# Altium integrated library Infineon RF & Wireless Control.IntLib: 329 symbols (part 9 of 11)
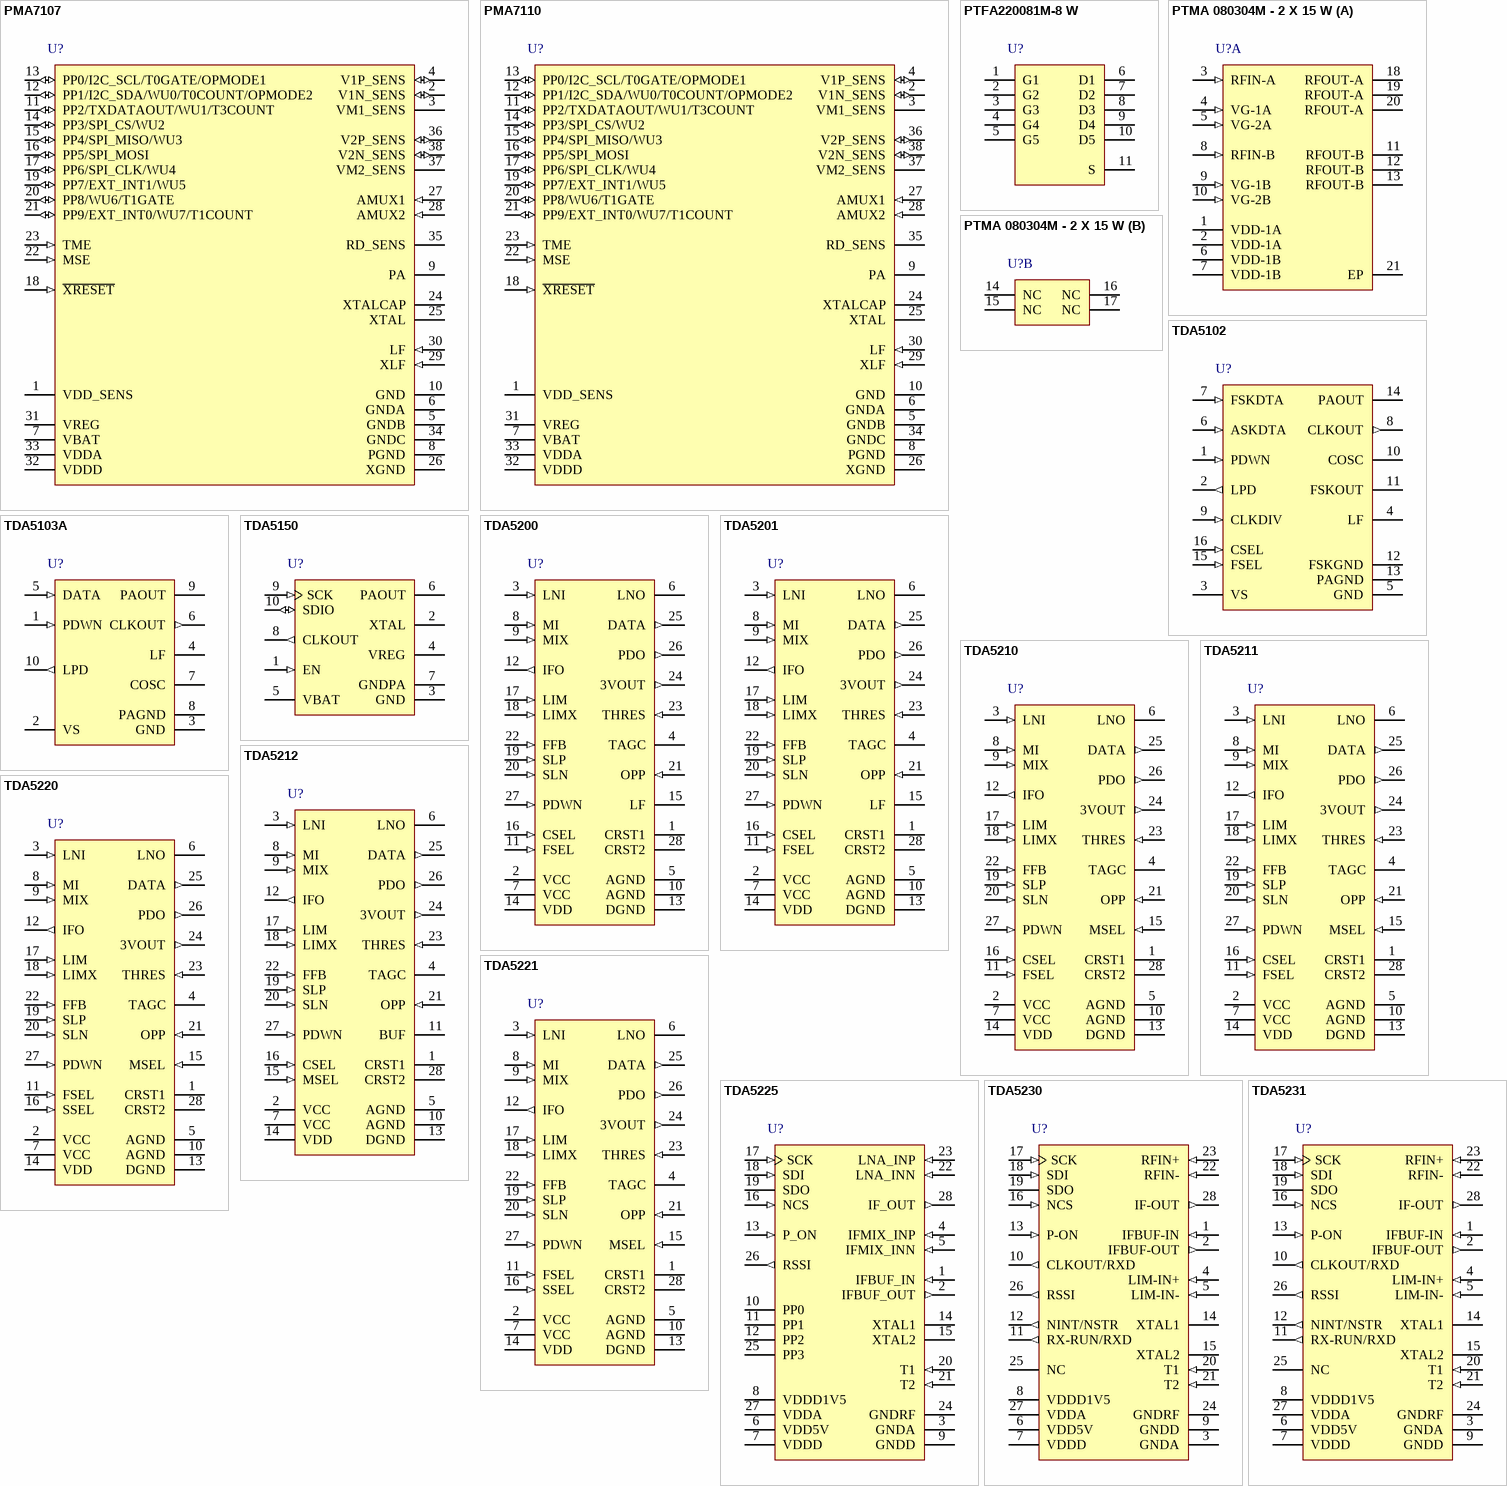
[diagram p17: symbols PMA7107 to TDA5231]

## PTFA220081M-8 W
designator U?
High Power RF LDMOS Field Effect Transistor 8 W, 700 to 2200 MHz, PG-SON-10, Reel, Green; Manufacturer: Infineon; PartNumber: PTFA220081M-8 W; Flange Type: Surface Mount; Green: TRUE; Matching: None; P1dB (typ): 8 W; Supply Voltage: 28 V; Test Signal: Two Tone; DatasheetVersion: Rev. 05; PackageReference: PG-SON-10; PackageDescription: 11-Pin Molded Plastic Package, 4 x 4 mm Body, 0.65 mm Pitch; Frequency Band Range: 700 to 2200 MHz; Packing: Reel; Mounting Technology: Surface Mount; Code_JEDEC: J-STD-020; Code_IPC: J-STD-020; ComponentLink1Description: Manufacturer URL; ComponentLink1URL: http://www.infineon.com/; ComponentLink2Description: Datasheet; ComponentLink2URL: http://www.infineon.com/dgdl/ptfa220081m-v4_ds_05.pdf?folderId=db3a304312fcb1bc01131b00814e17cf&fileId=db3a3043271faefd0127b603d2543329; ComponentLink3Description: Package Specification; ComponentLink3URL: http://www.infineon.com/dgdl/ptfa220081m-v4_ds_05.pdf?folderId=db3a304312fcb1bc01131b00814e17cf&fileId=db3a3043271faefd0127b603d2543329
footprint INF-PG-SON-10_N (SON, 10-Leads, Body 4x4 mm, Pitch 0.65 mm, Thermal Pad 3.4x2.37 mm, IPC Medium Density)
footprint INF-PG-SON-10_L (SON, 10-Leads, Body 4x4mm, Pitch 0.65mm, Thermal Pad 3.4x2.37mm, IPC High Density)
footprint INF-PG-SON-10_M (SON, 10-Leads, Body 4x4mm, Pitch 0.65mm, Thermal Pad 3.4x2.37mm, IPC Low Density)
pins: 1 G1, 2 G2, 3 G3, 4 G4, 5 G5, 6 D1, 7 D2, 8 D3, 9 D4, 10 D5, 11 S

## PTMA 080304M - 2 X 15 W
designator U?
Dual Wideband RF LDMOS Power Amplifier, 700 - 1,000 MHz, PG-DSO-20-63, Green; Manufacturer: Infineon; PartNumber: PTMA 080304M - 2 X 15 W; Green: yes; Group: PTMA 080304M - Amplifier IC; Matching: I/O; P1dB (typ): 30 W; DatasheetVersion: Rev. 04; PackageReference: PG-DSO-20-63; PackageDescription: 20-Pin Plastic (Green) Dual Small Outline Package, 11 x 15.9 mm Body, 1.27 mm Pitch; Frequency Band: 700 - 1,000 MHz; Mounting Technology: Surface Mount; ComponentLink1Description: Manufacturer URL; ComponentLink1URL: http://www.infineon.com/; ComponentLink2Description: Datasheet; ComponentLink2URL: http://www.infineon.com/dgdl/ptma080304m-v1_ds_03.pdf?folderId=db3a304312fcb1bc01131b00814e17cf&fileId=db3a30432a14dd54012a33c5465102ca&location=en.Products.Wireless_Communication_Products.RF_Power.Cellular__700_MHz_to_1000_MHz_.DATASHEET.ptma080304m-v1_ds_03.pdf; ComponentLink3Description: Package Specification; ComponentLink3URL: http://www.infineon.com/dgdl/Recommendations+for+Board+Assembly_DSO_SSOP.pdf?folderId=db3a3043163797a6011681c047ff1632&fileId=db3a30431936bc4b0119b9be83303ea0
footprint INF-PG-DSO-20-63_N (SOP, 20-Leads, Body 15.9x11 mm, Pitch 1.27 mm, Thermal Pad 6x15.9 mm, IPC Medium Density)
footprint INF-PG-DSO-20-63_L (SOP, 20-Leads, Body 15.9x11 mm, Pitch 1.27 mm, Thermal Pad 6x15.9 mm, IPC High Density)
footprint INF-PG-DSO-20-63_M (SOP, 20-Leads, Body 15.9x11 mm, Pitch 1.27 mm, Thermal Pad 6x15.9 mm, IPC Low Density)
part A pins: 1 VDD-1A (power), 2 VDD-1A (power), 3 RFIN-A (in), 4 VG-1A (in), 5 VG-2A (in), 6 VDD-1B (power), 7 VDD-1B (power), 8 RFIN-B (in), 9 VG-1B (in), 10 VG-2B (in), 11 RFOUT-B, 12 RFOUT-B, 13 RFOUT-B, 18 RFOUT-A, 19 RFOUT-A, 20 RFOUT-A, 21 EP
part B pins: 14 NC, 15 NC, 16 NC, 17 NC

## TDA5102
designator U?
915 MHz ASK / FSK Transmitter, -25 to 85 degC, PG-TSSOP-16, Green; Manufacturer: Infineon; PartNumber: TDA5102; Channel Requirements per Band: Single Channel; Frequency Band: 915 MHz; Green: yes; Transmit Power (at 3V): 2 dBm; DatasheetVersion: Rev. 1.1; PackageReference: PG-TSSOP-16; PackageDescription: 16-Pin Plastic (Green) Thin Shrink Small Outline Package, 5 x 4.4 mm Body, 0.65 mm Pitch; Supplier 1: Mouser; Supplier Part Number 1: 726-TDA5102; Supplier 2: Digi-Key; Supplier Part Number 2: TDA5102INTRINTR-ND; Supplier 3: Digi-Key; Supplier Part Number 3: TDA5102INTRINCT-ND; Supplier 4: Digi-Key; Supplier Part Number 4: TDA5102INTRINDKR-ND; Group: Transmitter; Halogen-free: yes; Modulation Type: ASK / FSK; Mounting Technology: Surface Mount; ComponentLink1Description: Manufacturer URL; ComponentLink1URL: http://www.infineon.com/; ComponentLink2Description: Datasheet; ComponentLink2URL: http://www.infineon.com/dgdl/TDA5102_DS_V1.1.pdf?folderId=db3a3043191a246301192dd42ef02ae5&fileId=db3a3043191a246301192de2f7b12b0c&location=en.Products.Sensors___Wireless_Control.Wireless_Control.Transmitter.DATASHEET.TDA5102_DS_V1.1.pdf; ComponentLink3Description: Package Specification; ComponentLink3URL: http://www.infineon.com/cms/packages/SMD_-_Surface_Mounted_Devices/P-PG-TSSOP/P-PG-TSSOP-16-1.html?__locale=en
footprint INF-PG-TSSOP-16_N (SOP, 16-Leads, Body 5x4.4 mm, Pitch 0.65 mm, IPC Medium Density, IPC Medium Density)
footprint INF-PG-TSSOP-16_L (SOP, 16-Leads, Body 5x4.4 mm, Pitch 0.65 mm, IPC High Density, IPC High Density)
footprint INF-PG-TSSOP-16_M (SOP, 16-Leads, Body 5x4.4 mm, Pitch 0.65 mm, IPC High Density, IPC Low Density)
pins: 1 PDWN (in) "Disable pin for the complete transmitter circuit. A logic low (PDWN < 0.7 V)  turns off all transmitter functions. A logic high (PDWN > 1.5 V) gives access to all transmitter functions. PDWN input will be pulled up by 40 µA (See Datasheet)", 2 LPD (out) "This pin provides an output indicating the low-voltage state of the supply voltage VS. VS < 2.15 V will set LPD to the low-state. An internal pull-up current of 40 µA gives the  output a high-state at supply voltages above 2.(See Datasheet)", 3 VS (power) "This pin is the positive supply of the transmitter electronics. An RF bypass capacitor should be connected directly to this pin and returned to GND (pin 5) as short as possible.", 4 LF "Output of the charge pump and input of the VCO control voltage. The loop bandwidth of the PLL is 150 kHz when only the internal loop filter is used. The loop bandwidth may be reduced by applying an external RC network (See Datasheet)", 5 GND (power) "General ground connection.", 6 ASKDTA (in) "Digital amplitude modulation can be imparted to the Power Amplifier through this pin. A logic high (ASKDTA > 1.5 V or open) enables the Power Amplifier. A logic low (ASKDTA < 0.5 V) disables the Power Amplifier.", 7 FSKDTA (in) "Digital frequency modulation can be imparted to the Xtal Oscillator by this pin. The VCO-frequency varies in accordance to the frequency of the reference oscillator. A logic high (FSKDTA > 1.5V or open) sets the FSK switch (See Datasheet)", 8 CLKOUT (out) "State. A logic low (FSKDTA < 0.5 V) closes the FSK switch from FSKOUT (pin 11) to FSKGND (pin 12). A capacitor can be switched to the reference crystal network this way. The Xtal Oscillator frequency will be shifted giving (See Datasheet)", 9 CLKDIV (in) "This pin is used to select the desired clock division rate for the CLKOUT signal. A logic low (CLKDIV < 0.2 V) applied to this pin selects the 3.57 MHz output signal at CLKOUT (pin 8). A logic high (CLKDIV open) applied to (See Datasheet)", 10 COSC "This pin is connected to the reference oscillator circuit. The reference oscillator is working as a negative impedance converter. It presents a negative resistance in series to an inductance at the COSC pin.", 11 FSKOUT (hiz) "This pin is connected to a switch to FSKGND (pin 12). The switch is closed when the signal at FSKDTA (pin 7) is in a logic low state. The switch is open when the signal at FSKDTA (pin 7) is in a logic high state.FSKOUT can (See Datasheet)", 12 FSKGND (power) "Ground connection for FSK modulation output  FSKOUT.", 13 PAGND (power) "Ground connection of the power amplifier.The RF ground return path of the power amplifier output PAOUT (pin 14) has to be concentrated to this pin.", 14 PAOUT (oc) "RF output pin of the transmitter. A DC path to the positive supply VS has to be supplied by the antenna matching network.", 15 FSEL (in) "This pin has to be left open to select the 915 MHz transmitter frequency range.A logic low (FSEL < 0.5 V) applied to this pin sets the transmitter to the 457 MHz frequency range.A logic high (FSEL open) applied to this pin (See Datasheet)", 16 CSEL (in) "This pin is used to select the desired reference frequency.A logic low (CSEL < 0.2 V) applied to this pin sets the internal frequency divider to accept a reference frequency of 7.15 MHz. A logic high (CSEL open) applied to (See Datasheet)"

## TDA5103A
designator U?
345 MHz ASK Transmitter, -25 to 85 degC, PG-TSSOP-10, Green; Manufacturer: Infineon; PartNumber: TDA5103A; Channel Requirements per Band: Single Channel; Frequency Band: 345 MHz; Green: yes; Modulation Type: ASK only; Transmit Power (at 3V): 5 dBm; DatasheetVersion: Rev. 1.0; PackageReference: PG-TSSOP-10; PackageDescription: 10-Pin Plastic (Green) Thin Shrink Small Outline Package, 3 x 3 mm Body, 0.5 mm Pitch; Supplier 1: Mouser; Supplier Part Number 1: 726-TDA5103A; Supplier 2: Digi-Key; Supplier Part Number 2: TDA5103AINTR-ND; Supplier 3: Digi-Key; Supplier Part Number 3: TDA5103AINCT-ND; Group: Transmitter; Mounting Technology: Surface Mount; ComponentLink1Description: Manufacturer URL; ComponentLink1URL: http://www.infineon.com/; ComponentLink2Description: Datasheet; ComponentLink2URL: http://www.infineon.com/dgdl/TDA5103A_DS_V1.pdf?folderId=db3a30431689f4420116a096e1db033e&fileId=db3a3043192ec3c201193314a3d02c1a&location=en.Products.Sensors___Wireless_Control.Wireless_Control.Transmitter.DATASHEET.TDA5103A_DS_V1.pdf; ComponentLink3Description: Package Specification; ComponentLink3URL: http://www.infineon.com/cms/packages/SMD_-_Surface_Mounted_Devices/P-PG-TSSOP/P-PG-TSSOP-10-1x_-3x_-5.html?__locale=en
footprint INF-PG-TSSOP-10_N (SOP, 10-Leads, Body 3x3 mm, Pitch 0.5 mm, IPC Medium Density)
footprint INF-PG-TSSOP-10_L (SOP, 10-Leads, Body 3x3 mm, Pitch 0.5 mm, IPC High Density)
footprint INF-PG-TSSOP-10_M (SOP, 10-Leads, Body 3x3 mm, Pitch 0.5 mm, IPC Low Density)
pins: 1 PDWN (in) "Disable pin for the complete transmitter circuit. A logic low (PDWN < 0.7 V) turns off all transmitter functions. A logic high (PDWN > 1.5 V) gives access to all transmitter functions. PDWN input will be pulled up by 40 uA (See Datasheet)", 2 VS (power) "This pin is the positive supply of the transmitter electronics. An RF bypass capacitor should be connected directly to this pin and returned to GND (pin 3) as short as possible.", 3 GND (power) "General ground connection.", 4 LF "Output of the charge pump and input of the VCO control voltage. The loop bandwidth of the PLL is 150 kHz when only the internal loop filter is used. The loop bandwidth may be reduced by applying an external RC network (See Datasheet)", 5 DATA (in) "Digital amplitude modulation can be imparted to the Power Amplifier through this pin. A logic high (DATA > 1.5 V or open) enables the Power Amplifier. A logic low (DATA < 0.5 V) disables the Power Amplifier.", 6 CLKOUT (out) "Clock output to supply an external device. An external pull-up resistor has to be added in accordance to the driving requirements of the external device. The clock output frequency is 2.7 MHz when a crystal of 10.78 MHz is (See Datasheet)", 7 COSC "This pin is connected to the reference oscillator circuit. The reference oscillator is working as a negative impedance converter. It presents a negative resistance in series to an inductance at the COSC pin. The resonance (See Datasheet)", 8 PAGND (power) "Ground connection of the power amplifier. The RF ground return path of the power amplifier output PAOUT (pin 9) has to be concentrated to this pin.", 9 PAOUT (oc) "RF output pin of the transmitter. A DC path to the positive supply VS has to be supplied by the antenna matching network.", 10 LPD (out) "This pin provides an output indicating the low-voltage state of the supply voltage VS. VS < 2.15 V will set LPD to the low-state. An internal pull-up current of 40 uA gives the output a high-state at supply voltages above 2.(See Datasheet)"

## TDA5150
designator U?
Multichannel / Multiband Transmitter, -40 to 85 degC, PG-TSSOP-10, Green; Manufacturer: Infineon; PartNumber: TDA5150; Frequency Band: 315 MHz, 434 MHz, 868 MHz, 915 MHz; Green: yes; Group: SmartLEWIS TX to Multi-Channel Transmitter; Modulation Type: ASK / FSK; Transmit Power (at 3V): 5 dBm, 8 dBm, 10 dBm; DatasheetVersion: Rev. 1.0; PackageReference: PG-TSSOP-10; PackageDescription: 10-Pin Plastic (Green) Thin Shrink Small Outline Package, 3 x 3 mm Body, 0.5 mm Pitch; Supplier 1: Mouser; Supplier Part Number 1: 726-TDA5150; Supplier 2: Digi-Key; Supplier Part Number 2: TDA5150INTR-ND; Supplier 3: Digi-Key; Supplier Part Number 3: TDA5150INCT-ND; Supplier 4: Digi-Key; Supplier Part Number 4: TDA5150INDKR-ND; Channel Requirements per Band: Multi Channel; Mounting Technology: Surface Mount; ComponentLink1Description: Manufacturer URL; ComponentLink1URL: http://www.infineon.com/; ComponentLink2Description: Datasheet; ComponentLink2URL: http://www.infineon.com/dgdl/TDA5150_DS_V1.pdf?folderId=db3a3043191a246301192dd42ef02ae5&fileId=db3a30431f848401011fb2f259a44fee&location=en.Products.Sensors___Wireless_Control.Wireless_Control.Transmitter.DATASHEET.TDA5150_DS_V1.pdf; ComponentLink3Description: Package Specification; ComponentLink3URL: http://www.infineon.com/cms/packages/SMD_-_Surface_Mounted_Devices/P-PG-TSSOP/P-PG-TSSOP-10-1x_-3x_-5.html?__locale=en
footprint INF-PG-TSSOP-10_N (SOP, 10-Leads, Body 3x3 mm, Pitch 0.5 mm, IPC Medium Density)
footprint INF-PG-TSSOP-10_L (SOP, 10-Leads, Body 3x3 mm, Pitch 0.5 mm, IPC High Density)
footprint INF-PG-TSSOP-10_M (SOP, 10-Leads, Body 3x3 mm, Pitch 0.5 mm, IPC Low Density)
pins: 1 EN (in) "Clock 3-wire bus", 2 XTAL "Crystal Oscillator", 3 GND (power) "Power supply ground", 4 VREG (power) "Voltage Regulator output", 5 VBAT (power) "Power supply (+)", 6 PAOUT (oc) "RF Power  Amplifier Output  (open drain)", 7 GNDPA (power) "RF Power  Amplifier Ground return", 8 CLKOUT (out) "Programmable Divided Clock", 9 SCK (in) "Clock 3-wire bus", 10 SDIO (io) "Data 3-wire bus"

## TDA5200
designator U?
ASK Single Conversion Receiver, -40 to 85 degC, PG-TSSOP-28, Green; Manufacturer: Infineon; PartNumber: TDA5200; Channel Requirements per Band: Single-Channel; Digital Baseband / Autonomous RX: no; Frequency Band: 434 MHz, 868 MHz; Green: yes; Modulation Type: ASK only; DatasheetVersion: Rev. 3.0; PackageReference: PG-TSSOP-28; PackageDescription: 28-Pin Plastic (Green) Thin Shrink Small Outline Package, 9.7 x 4.4 mm Body, 0.65 mm Pitch; Supplier 1: Mouser; Supplier Part Number 1: 726-TDA5200; Supplier 2: Digi-Key; Supplier Part Number 2: TDA5200INTR-ND; Supplier 3: Digi-Key; Supplier Part Number 3: TDA5200INCT-ND; Supplier 4: Digi-Key; Supplier Part Number 4: TDA5200INDKR-ND; Group: Receiver; Halogen-free: yes; Mounting Technology: Surface Mount; ComponentLink1Description: Manufacturer URL; ComponentLink1URL: http://www.infineon.com/; ComponentLink2Description: Datasheet; ComponentLink2URL: http://www.infineon.com/dgdl/TDA5200_DS_V3.pdf?folderId=db3a30431689f4420116a096e1db033e&fileId=db3a3043191a2463011928b6ccd72a21&location=en.Products.Sensors___Wireless_Control.Wireless_Control.Receiver.DATASHEET.TDA5200_DS_V3.pdf; ComponentLink3Description: Package Specification; ComponentLink3URL: http://www.infineon.com/cms/packages/SMD_-_Surface_Mounted_Devices/P-PG-TSSOP/P-PG-TSSOP-28-1x_-4x_-8.html?__locale=en
footprint INF-PG-TSSOP-28_N (SOP, 28-Leads, Body 9.7x4.4 mm, Pitch 0.65 mm, IPC Medium Density)
footprint INF-PG-TSSOP-28_L (SOP, 28-Leads, Body 9.7x4.4 mm, Pitch 0.65 mm, IPC High Density)
footprint INF-PG-TSSOP-28_M (SOP, 28-Leads, Body 9.7x4.4 mm, Pitch 0.65 mm, IPC Low Density)
pins: 1 CRST1 "External Crystal Connector 1", 2 VCC (power) "5 V Supply", 3 LNI (in) "LNA Input", 4 TAGC "AGC Time Constant Control", 5 AGND (power) "Analogue Ground Return", 6 LNO (oc) "LNA Output", 7 VCC (power) "5 V Supply", 8 MI (in) "Mixer Input", 9 MIX (in) "Complementary Mixer Input", 10 AGND (power) "Analogue Ground Return", 11 FSEL (in) "Operating Frequency Selector 869/434 MHz", 12 IFO (out) "IF Mixer Output 10.7 MHz", 13 DGND (power) "Digital Ground Return", 14 VDD (power) "5 V Supply PLL Counter Circuitry", 15 LF "PLL Filter Access Point", 16 CSEL (in) "Quartz Selector 6.xx MHz or 13.xx MHz", 17 LIM (in) "Limiter Input", 18 LIMX (in) "Complementary Limiter Input", 19 SLP (in) "Data Slicer Positive Input", 20 SLN (in) "Data Slicer Negative Input", 21 OPP (in) "OpAmp Noninverting Input", 22 FFB (in) "Data Filter Feedback Pin", 23 THRES (in) "AGC Threshold Input", 24 3VOUT (out) "3 V Reference Output", 25 DATA (out) "Data Output", 26 PDO (out) "Peak Detector Output", 27 PDWN (in) "Power Down Input", 28 CRST2 "External Crystal Connector 2"

## TDA5201
designator U?
ASK Single Conversion Receiver, -40 to 85 degC, PG-TSSOP-28, Green; Manufacturer: Infineon; PartNumber: TDA5201; Channel Requirements per Band: Single-Channel; Digital Baseband / Autonomous RX: no; Frequency Band: 315 MHz, 345 MHz; Green: yes; Modulation Type: ASK only; DatasheetVersion: Rev. 1.6; PackageReference: PG-TSSOP-28; PackageDescription: 28-Pin Plastic (Green) Thin Shrink Small Outline Package, 9.7 x 4.4 mm Body, 0.65 mm Pitch; Supplier 1: Mouser; Supplier Part Number 1: 726-TDA5201; Supplier 2: Digi-Key; Supplier Part Number 2: TDA5201INTR-ND; Supplier 3: Digi-Key; Supplier Part Number 3: TDA5201INCT-ND; Supplier 4: Digi-Key; Supplier Part Number 4: TDA5201INDKR-ND; Group: Receiver; Halogen-free: yes; Mounting Technology: Surface Mount; ComponentLink1Description: Manufacturer URL; ComponentLink1URL: http://www.infineon.com/; ComponentLink2Description: Datasheet; ComponentLink2URL: http://www.infineon.com/dgdl/TDA5201_DS_V1.6.pdf?folderId=db3a30431689f4420116a096e1db033e&fileId=db3a3043191a246301192904e74a7f42&location=en.Products.Sensors___Wireless_Control.Wireless_Control.Receiver.DATASHEET.TDA5201_DS_V1.6.pdf; ComponentLink3Description: Package Specification; ComponentLink3URL: http://www.infineon.com/cms/packages/SMD_-_Surface_Mounted_Devices/P-PG-TSSOP/P-PG-TSSOP-28-1x_-4x_-8.html?__locale=en
footprint INF-PG-TSSOP-28_N (SOP, 28-Leads, Body 9.7x4.4 mm, Pitch 0.65 mm, IPC Medium Density)
footprint INF-PG-TSSOP-28_L (SOP, 28-Leads, Body 9.7x4.4 mm, Pitch 0.65 mm, IPC High Density)
footprint INF-PG-TSSOP-28_M (SOP, 28-Leads, Body 9.7x4.4 mm, Pitch 0.65 mm, IPC Low Density)
pins: 1 CRST1 "External Crystal Connector 1", 2 VCC (power) "5 V Supply", 3 LNI (in) "LNA Input", 4 TAGC "AGC Time Constant Control", 5 AGND (power) "Analogue Ground Return", 6 LNO (oc) "LNA Output", 7 VCC (power) "5 V Supply", 8 MI (in) "Mixer Input", 9 MIX (in) "Complementary Mixer Input", 10 AGND (power) "Analogue Ground Return", 11 FSEL (in) "Not applicable - has to be left  open", 12 IFO (out) "IF Mixer Output 10.7 MHz", 13 DGND (power) "Digital Ground Return", 14 VDD (power) "5 V Supply PLL Counter Circuitry", 15 LF "PLL Filter Access Point", 16 CSEL (in) "Quartz Selector 5.xx MHz or 10.xx MHz", 17 LIM (in) "Limiter Input", 18 LIMX (in) "Complementary Limiter Input", 19 SLP (in) "Data Slicer Positive Input", 20 SLN (in) "Data Slicer Negative Input", 21 OPP (in) "OpAmp Noninverting Input", 22 FFB (in) "Data Filter Feedback Pin", 23 THRES (in) "AGC Threshold Input", 24 3VOUT (out) "3 V Reference Output", 25 DATA (out) "Data Output", 26 PDO (out) "Peak Detector Output", 27 PDWN (in) "Power Down Input", 28 CRST2 "External Crystal Connector 2"

## TDA5210
designator U?
ASK / FSK Single Conversion Receiver, -40 to 105 degC, PG-TSSOP-28, Green; Manufacturer: Infineon; PartNumber: TDA5210; Channel Requirements per Band: Single-Channel; Digital Baseband / Autonomous RX: no; Frequency Band: 434 MHz, 868 MHz; Green: yes; DatasheetVersion: Rev. 3.0; PackageReference: PG-TSSOP-28; PackageDescription: 28-Pin Plastic (Green) Thin Shrink Small Outline Package, 9.7 x 4.4 mm Body, 0.65 mm Pitch; Supplier 1: Mouser; Supplier Part Number 1: 726-TDA5210; Supplier 2: Digi-Key; Supplier Part Number 2: TDA5210INTR-ND; Supplier 3: Digi-Key; Supplier Part Number 3: TDA5210INCT-ND; Supplier 4: Digi-Key; Supplier Part Number 4: TDA5210INDKR-ND; Group: Receiver; Halogen-free: yes; Modulation Type: ASK / FSK; Mounting Technology: Surface Mount; ComponentLink1Description: Manufacturer URL; ComponentLink1URL: http://www.infineon.com/; ComponentLink2Description: Datasheet; ComponentLink2URL: http://www.infineon.com/dgdl/TDA5210_V3.pdf?folderId=db3a30431689f4420116a096e1db033e&fileId=db3a304316f66ee80117a09ca6915312&location=en.Products.Sensors___Wireless_Control.Wireless_Control.Receiver.DATASHEET.TDA5210_V3.pdf; ComponentLink3Description: Package Specification; ComponentLink3URL: http://www.infineon.com/cms/packages/SMD_-_Surface_Mounted_Devices/P-PG-TSSOP/P-PG-TSSOP-28-1x_-4x_-8.html?__locale=en
footprint INF-PG-TSSOP-28_N (SOP, 28-Leads, Body 9.7x4.4 mm, Pitch 0.65 mm, IPC Medium Density)
footprint INF-PG-TSSOP-28_L (SOP, 28-Leads, Body 9.7x4.4 mm, Pitch 0.65 mm, IPC High Density)
footprint INF-PG-TSSOP-28_M (SOP, 28-Leads, Body 9.7x4.4 mm, Pitch 0.65 mm, IPC Low Density)
pins: 1 CRST1 "External Crystal Connector 1", 2 VCC (power) "5V Supply", 3 LNI (in) "LNA Input", 4 TAGC "AGC Time Constant  Control", 5 AGND (power) "Analogue Ground Return", 6 LNO (oc) "LNA Output", 7 VCC (power) "5V Supply", 8 MI (in) "Mixer Input", 9 MIX (in) "Complementary Mixer Input", 10 AGND (power) "Analogue Ground Return", 11 FSEL (in) "868/434 MHz Operating Frequency Selector", 12 IFO (out) "10.7 MHz IF Mixer Output", 13 DGND (power) "Digital Ground Return", 14 VDD (power) "5V Supply (PLL Counter Circuitry)", 15 MSEL (in) "ASK/FSK Modulation Format  Selector", 16 CSEL (in) "6.xx or 13.xx MHz Quartz  Selector", 17 LIM (in) "Limiter Input", 18 LIMX (in) "Complementary Limiter Input", 19 SLP (in) "Data Slicer Positive Input", 20 SLN (in) "Data Slicer Negative Input", 21 OPP (in) "OpAmp Noninverting Input", 22 FFB (in) "Data Filter Feedback Pin", 23 THRES (in) "AGC Threshold Input", 24 3VOUT (out) "3V Reference Output", 25 DATA (out) "Data Output", 26 PDO (out) "Peak Detector Output", 27 PDWN (in) "Power Down Input", 28 CRST2 "External Crystal Connector 2"

## TDA5211
designator U?
ASK / FSK Single Conversion Receiver, -40 to 105 degC, PG-TSSOP-28, Green; Manufacturer: Infineon; PartNumber: TDA5211; Channel Requirements per Band: Single-Channel; Digital Baseband / Autonomous RX: no; Frequency Band: 315 MHz, 345 MHz; Green: yes; DatasheetVersion: Rev. 2.0; PackageReference: PG-TSSOP-28; PackageDescription: 28-Pin Plastic (Green) Thin Shrink Small Outline Package, 9.7 x 4.4 mm Body, 0.65 mm Pitch; Supplier 1: Mouser; Supplier Part Number 1: 726-TDA5211; Supplier 2: Digi-Key; Supplier Part Number 2: TDA5211INTR-ND; Supplier 3: Digi-Key; Supplier Part Number 3: TDA5211INCT-ND; Supplier 4: Digi-Key; Supplier Part Number 4: TDA5211INDKR-ND; Group: Receiver; Halogen-free: yes; Modulation Type: ASK / FSK; Mounting Technology: Surface Mount; ComponentLink1Description: Manufacturer URL; ComponentLink1URL: http://www.infineon.com/; ComponentLink2Description: Datasheet; ComponentLink2URL: http://www.infineon.com/dgdl/TDA5211_DS_V2.pdf?folderId=db3a30431689f4420116a096e1db033e&fileId=db3a3043191a246301192903d4447f3f&location=en.Products.Sensors___Wireless_Control.Wireless_Control.Receiver.DATASHEET.TDA5211_DS_V2.pdf; ComponentLink3Description: Package Specification; ComponentLink3URL: http://www.infineon.com/cms/packages/SMD_-_Surface_Mounted_Devices/P-PG-TSSOP/P-PG-TSSOP-28-1x_-4x_-8.html?__locale=en
footprint INF-PG-TSSOP-28_N (SOP, 28-Leads, Body 9.7x4.4 mm, Pitch 0.65 mm, IPC Medium Density)
footprint INF-PG-TSSOP-28_L (SOP, 28-Leads, Body 9.7x4.4 mm, Pitch 0.65 mm, IPC High Density)
footprint INF-PG-TSSOP-28_M (SOP, 28-Leads, Body 9.7x4.4 mm, Pitch 0.65 mm, IPC Low Density)
pins: 1 CRST1 "External Crystal Connector 1", 2 VCC (power) "5V Supply", 3 LNI (in) "LNA Input", 4 TAGC "AGC Time Constant Control", 5 AGND (power) "Analogue Ground Return", 6 LNO (oc) "LNA Output", 7 VCC (power) "5V Supply", 8 MI (in) "Mixer Input", 9 MIX (in) "Complementary Mixer Input", 10 AGND (power) "Analogue Ground Return", 11 FSEL (in) "ASK/FSK Modulation Format Selector", 12 IFO (out) "10.7 MHz IF Mixer Output", 13 DGND (power) "Digital Ground Return", 14 VDD (power) "5V Supply(PLL Counter Circuitty)", 15 MSEL (in) "ASK/FSK Modulation Format  Selector", 16 CSEL (in) "6.xx or 13.xx MHz Quartz  Selector", 17 LIM (in) "Limiter Input", 18 LIMX (in) "Complementary Limiter Input", 19 SLP (in) "Data Slicer Positive Input", 20 SLN (in) "Data Slicer Negative Input", 21 OPP (in) "OpAmp Noninverting Input", 22 FFB (in) "Data Filter Feedback Pin", 23 THRES (in) "AGC Threshold Input", 24 3VOUT (out) "3V Reference Output", 25 DATA (out) "Data Output", 26 PDO (out) "Peak Detector Output", 27 PDWN (in) "Power Down Input", 28 CRST2 "External Crystal Connector2"

## TDA5212
designator U?
ASK / FSK Single Conversion Receiver, -40 to 85 degC, PG-TSSOP-28, Green; Manufacturer: Infineon; PartNumber: TDA5212; Channel Requirements per Band: Single-Channel; Digital Baseband / Autonomous RX: no; Frequency Band: 915 MHz; Green: yes; DatasheetVersion: Rev. 1.3; PackageReference: PG-TSSOP-28; PackageDescription: 28-Pin Plastic (Green) Thin Shrink Small Outline Package, 9.7 x 4.4 mm Body, 0.65 mm Pitch; Supplier 1: Mouser; Supplier Part Number 1: 726-TDA5212; Supplier 2: Digi-Key; Supplier Part Number 2: TDA5212INTR-ND; Supplier 3: Digi-Key; Supplier Part Number 3: TDA5212INCT-ND; Supplier 4: Digi-Key; Supplier Part Number 4: TDA5212INDKR-ND; Group: Receiver; Halogen-free: yes; Modulation Type: ASK / FSK; Mounting Technology: Surface Mount; ComponentLink1Description: Manufacturer URL; ComponentLink1URL: http://www.infineon.com/; ComponentLink2Description: Datasheet; ComponentLink2URL: http://www.infineon.com/dgdl/TDA5212_DS_V1.3.pdf?folderId=db3a30431689f4420116a096e1db033e&fileId=db3a3043191a24630119290d61f47f61&location=en.Products.Sensors___Wireless_Control.Wireless_Control.Receiver.DATASHEET.TDA5212_DS_V1.3.pdf; ComponentLink3Description: Package Specification; ComponentLink3URL: http://www.infineon.com/cms/packages/SMD_-_Surface_Mounted_Devices/P-PG-TSSOP/P-PG-TSSOP-28-1x_-4x_-8.html?__locale=en
footprint INF-PG-TSSOP-28_N (SOP, 28-Leads, Body 9.7x4.4 mm, Pitch 0.65 mm, IPC Medium Density)
footprint INF-PG-TSSOP-28_L (SOP, 28-Leads, Body 9.7x4.4 mm, Pitch 0.65 mm, IPC High Density)
footprint INF-PG-TSSOP-28_M (SOP, 28-Leads, Body 9.7x4.4 mm, Pitch 0.65 mm, IPC Low Density)
pins: 1 CRST1 "External Crystal Connector 1", 2 VCC (power) "5V Supply", 3 LNI (in) "LNA Input", 4 TAGC "AGC Time Constant Control", 5 AGND (power) "Analogue Ground Return", 6 LNO (oc) "LNA Output", 7 VCC (power) "5V Supply", 8 MI (in) "Mixer Input", 9 MIX (in) "Complementary Mixer Input", 10 AGND (power) "Analogue Ground Return", 11 BUF (power) "Mixer Buffer Ground", 12 IFO (out) "10.7 MHz IF Mixer Output", 13 DGND (power) "Digital Ground Return", 14 VDD (power) "5V Supply(PLL Counter Circuitty)", 15 MSEL (in) "ASK/FSK Modulation Format Selector", 16 CSEL (in) "7.xx or 14.xx MHz Quartz Selector", 17 LIM (in) "Limiter Input", 18 LIMX (in) "Complementary Limiter Input", 19 SLP (in) "Data Slicer Positive Input", 20 SLN (in) "Data Slicer Negative Input", 21 OPP (in) "OpAmp Noninverting Input", 22 FFB (in) "Data Filter Feedback Pin", 23 THRES (in) "AGC Threshold Input", 24 3VOUT (out) "3V Reference Output", 25 DATA (out) "Data Output", 26 PDO (out) "Peak Detector Output", 27 PDWN (in) "Power Down Input", 28 CRST2 "External Crystal Connector2"

## TDA5220
designator U?
ASK / FSK Single Conversion Receiver, -40 to 105 degC, PG-TSSOP-28, Green; Manufacturer: Infineon; PartNumber: TDA5220; Channel Requirements per Band: Single-Channel; Digital Baseband / Autonomous RX: no; Frequency Band: 434 MHz, 868 MHz; Green: yes; DatasheetVersion: Rev. 1.1; PackageReference: PG-TSSOP-28; PackageDescription: 28-Pin Plastic (Green) Thin Shrink Small Outline Package, 9.7 x 4.4 mm Body, 0.65 mm Pitch; Supplier 1: Digi-Key; Supplier Part Number 1: TDA5220INTR-ND; Supplier 2: Digi-Key; Supplier Part Number 2: TDA5220INCT-ND; Supplier 3: Digi-Key; Supplier Part Number 3: TDA5220INDKR-ND; Group: Receiver; Halogen-free: yes; Modulation Type: ASK / FSK; Mounting Technology: Surface Mount; ComponentLink1Description: Manufacturer URL; ComponentLink1URL: http://www.infineon.com/; ComponentLink2Description: Datasheet; ComponentLink2URL: http://www.infineon.com/dgdl/TDA5220_DS_V1.1.pdf?folderId=db3a30431689f4420116a096e1db033e&fileId=db3a3043191a24630119291037407f6a&location=en.Products.Sensors___Wireless_Control.Wireless_Control.Receiver.DATASHEET.TDA5220_DS_V1.1.pdf; ComponentLink3Description: Package Specification; ComponentLink3URL: http://www.infineon.com/cms/packages/SMD_-_Surface_Mounted_Devices/P-PG-TSSOP/P-PG-TSSOP-28-1x_-4x_-8.html?__locale=en
footprint INF-PG-TSSOP-28_N (SOP, 28-Leads, Body 9.7x4.4 mm, Pitch 0.65 mm, IPC Medium Density)
footprint INF-PG-TSSOP-28_L (SOP, 28-Leads, Body 9.7x4.4 mm, Pitch 0.65 mm, IPC High Density)
footprint INF-PG-TSSOP-28_M (SOP, 28-Leads, Body 9.7x4.4 mm, Pitch 0.65 mm, IPC Low Density)
pins: 1 CRST1 "External Crystal Connector 1", 2 VCC (power) "5V Supply", 3 LNI (in) "LNA Input", 4 TAGC "AGC Time Constant Control", 5 AGND (power) "Analogue Ground Return", 6 LNO (oc) "LNA Output", 7 VCC (power) "5V Supply", 8 MI (in) "Mixer Input", 9 MIX (in) "Complementary Mixer Input", 10 AGND (power) "Analogue Ground Return", 11 FSEL (in) "868/434 MHz Operating Frequency Selector", 12 IFO (out) "10.7 MHz IF Mixer Output", 13 DGND (power) "Digital Ground Return", 14 VDD (power) "5V Supply (PLL Counter Circuity)", 15 MSEL (in) "ASK/FSK Modulation Format Sector", 16 SSEL (in) "Data Slicer Reference Level Sector", 17 LIM (in) "Limiter Input", 18 LIMX (in) "Complementary Limiter Input", 19 SLP (in) "Data Slicer Positive Input", 20 SLN (in) "Data Slicer Negative Input", 21 OPP (in) "OpAmp Noninverting Input", 22 FFB (in) "Data Filter Feedback Pin", 23 THRES (in) "AGC Threshold Input", 24 3VOUT (out) "3V Reference Output", 25 DATA (out) "Data Output", 26 PDO (out) "Peak Detector Output", 27 PDWN (in) "Power Down Input", 28 CRST2 "External Crystal Connector 2"

## TDA5221
designator U?
ASK / FSK Single Conversion Receiver, -40 to 105 degC, PG-TSSOP-28, Green; Manufacturer: Infineon; PartNumber: TDA5221; Channel Requirements per Band: Multi-Channel; Digital Baseband / Autonomous RX: no; Frequency Band: 315 MHz; Green: yes; DatasheetVersion: Rev. 1.1; PackageReference: PG-TSSOP-28; PackageDescription: 28-Pin Plastic (Green) Thin Shrink Small Outline Package, 9.7 x 4.4 mm Body, 0.65 mm Pitch; Supplier 1: Digi-Key; Supplier Part Number 1: TDA5221INTR-ND; Supplier 2: Digi-Key; Supplier Part Number 2: TDA5221INCT-ND; Supplier 3: Digi-Key; Supplier Part Number 3: TDA5221INDKR-ND; Group: Receiver; Halogen-free: yes; Modulation Type: ASK / FSK; Mounting Technology: Surface Mount; ComponentLink1Description: Manufacturer URL; ComponentLink1URL: http://www.infineon.com/; ComponentLink2Description: Datasheet; ComponentLink2URL: http://www.infineon.com/dgdl/TDA5221_DS_V1.1.pdf?folderId=db3a30431689f4420116a096e1db033e&fileId=db3a3043191a246301192912e83e7f75&location=en.Products.Sensors___Wireless_Control.Wireless_Control.Receiver.DATASHEET.TDA5221_DS_V1.1.pdf; ComponentLink3Description: Package Specification; ComponentLink3URL: http://www.infineon.com/cms/packages/SMD_-_Surface_Mounted_Devices/P-PG-TSSOP/P-PG-TSSOP-28-1x_-4x_-8.html?__locale=en
footprint INF-PG-TSSOP-28_N (SOP, 28-Leads, Body 9.7x4.4 mm, Pitch 0.65 mm, IPC Medium Density)
footprint INF-PG-TSSOP-28_L (SOP, 28-Leads, Body 9.7x4.4 mm, Pitch 0.65 mm, IPC High Density)
footprint INF-PG-TSSOP-28_M (SOP, 28-Leads, Body 9.7x4.4 mm, Pitch 0.65 mm, IPC Low Density)
pins: 1 CRST1 "External Crystal Connector 1", 2 VCC (power) "5V Supply", 3 LNI (in) "LNA Input", 4 TAGC "AGC Time Constant Control", 5 AGND (power) "Analogue Ground Return", 6 LNO (oc) "LNA Output", 7 VCC (power) "5V Supply", 8 MI (in) "Mixer Input", 9 MIX (in) "Complementary Mixer Input", 10 AGND (power) "Analogue Ground Return", 11 FSEL (in) "Frequency Selector", 12 IFO (out) "10.7 MHz IF Mixer Output", 13 DGND (power) "Digital Ground Return", 14 VDD (power) "5V Supply (PLL Counter Circuity)", 15 MSEL (in) "ASK/FSK Modulation Format Sector", 16 SSEL (in) "Data Slicer Reference Level Sector", 17 LIM (in) "Limiter Input", 18 LIMX (in) "Complementary Limiter Input", 19 SLP (in) "Data Slicer Positive Input", 20 SLN (in) "Data Slicer Negative Input", 21 OPP (in) "OpAmp Noninverting Input", 22 FFB (in) "Data Filter Feedback Pin", 23 THRES (in) "AGC Threshold Input", 24 3VOUT (out) "3V Reference Output", 25 DATA (out) "Data Output", 26 PDO (out) "Peak Detector Output", 27 PDWN (in) "Power Down Input", 28 CRST2 "External Crystal Connector 2"

## TDA5225
designator U?
Enhanced Sensitivity Multi-Channel Quad-Configuration Receiver with Digital Slicer, -40 to 105 degC, PG-TSSOP-28, Green; Manufacturer: Infineon; PartNumber: TDA5225; Digital Baseband / Autonomous RX: no; Frequency Band: 315 MHz, 434 MHz, 868 MHz, 915 MHz; Green: yes; Group: SmartLEWIS RX+ to High Sensitivity Receiver with Digital Baseband Processing; Modulation Type: ASK / FSK; DatasheetVersion: Rev. 1.0; PackageReference: PG-TSSOP-28; PackageDescription: 28-Pin Plastic (Green) Thin Shrink Small Outline Package, 9.7 x 4.4 mm Body, 0.65 mm Pitch; Supplier 1: Mouser; Supplier Part Number 1: 726-TDA5225; Supplier 2: Digi-Key; Supplier Part Number 2: TDA5225-ND; Channel Requirements per Band: Multi-Channel; Halogen-free: yes; Mounting Technology: Surface Mount; ComponentLink1Description: Manufacturer URL; ComponentLink1URL: http://www.infineon.com/; ComponentLink2Description: Datasheet; ComponentLink2URL: http://www.infineon.com/dgdl/TDA5225_DS_V1.0.pdf?folderId=db3a3043191a246301192dd3ee2c2ae4&fileId=db3a30432968c5520129698882d0006e; ComponentLink3Description: Package Specification; ComponentLink3URL: http://www.infineon.com/cms/packages/SMD_-_Surface_Mounted_Devices/P-PG-TSSOP/P-PG-TSSOP-28-1x_-4x_-8.html?__locale=en
footprint INF-PG-TSSOP-28_N (SOP, 28-Leads, Body 9.7x4.4 mm, Pitch 0.65 mm, IPC Medium Density)
footprint INF-PG-TSSOP-28_L (SOP, 28-Leads, Body 9.7x4.4 mm, Pitch 0.65 mm, IPC High Density)
footprint INF-PG-TSSOP-28_M (SOP, 28-Leads, Body 9.7x4.4 mm, Pitch 0.65 mm, IPC Low Density)
pins: 1 IFBUF_IN (in) "Analog input IF Buffer input Note: Input is biased at VDDA/2", 2 IFBUF_OUT (out) "Analog output IF Buffer output", 3 GNDA (power) "Analog ground", 4 IFMIX_INP (in) "Analog input + IF mixer input Note: Input is biased at VDDA/2", 5 IFMIX_INN (in) "Analog input. - IF mixer input", 6 VDD5V (power) "Analog input 5 Volt supply input", 7 VDDD (power) "Analog input digital supply input", 8 VDDD1V5 (power) "Analog output 1.5 Volt voltage regulator", 9 GNDD (power) "Digital ground", 10 PP0 (hiz) "Digital output CLK_OUT, RX_RUN, NINT, LOW, HIGH, DATA and DATA_MATCHFIL are programmable via a SFR (Special Function Register), default = CLK_OUT", 11 PP1 (hiz) "Digital output CLK_OUT, RX_RUN, NINT, LOW, HIGH, DATA and DATA_MATCHFIL are programmable via a SFR, default = DATA", 12 PP2 (hiz) "Digital output CLK_OUT, RX_RUN, NINT, LOW, HIGH, DATA and DATA_MATCHFIL are programmable via a SFR, default = NINT", 13 P_ON (in) "Digital input power-on reset", 14 XTAL1 "Analog input crystal oscillator input", 15 XTAL2 "Analog output crystal oscillator output", 16 NCS (in) "Digital input SPI enable", 17 SCK (in) "Digital input SPI clock", 18 SDI (in) "Digital input SPI data in", 19 SDO (hiz) "Digital output SPI data out", 20 T1 (in) "Digital input, connect to Digital Ground", 21 T2 (in) "Digital input, connect to Digital Ground", 22 LNA_INN (in) "Analog input - RF input", 23 LNA_INP (in) "Analog input + RF input", 24 GNDRF (power) "RF analog ground", 25 PP3 (hiz) "Digital output RX_RUN, NINT, LOW, HIGH, DATA and DATA_MATCHFIL are programmable via a SFR, default = RX_RUN", 26 RSSI (out) "Analog output analog RSSI output/ analog test pin ANA_TST", 27 VDDA (power) "Analog input Analog supply", 28 IF_OUT (out) "Analog output IF output"

## TDA5230
designator U?
Universal Low Power ASK / FSK Single Conversion Multi-Channel Image-Reject Receiver with Digital Baseband Processing, -40 to 105 degC, PG-TSSOP-28, Green; Manufacturer: Infineon; PartNumber: TDA5230; Digital Baseband / Autonomous RX: yes; Frequency Band: 434 MHz, 868 MHz; Group: SmartLEWIS RX to Receiver with Digital Baseband Processing; DatasheetVersion: Rev. 4.0; PackageReference: PG-TSSOP-28; PackageDescription: 28-Pin Plastic (Green) Thin Shrink Small Outline Package, 9.7 x 4.4 mm Body, 0.65 mm Pitch; Supplier 1: Mouser; Supplier Part Number 1: 726-TDA5230; Supplier 2: Digi-Key; Supplier Part Number 2: TDA5230INTR-ND; Supplier 3: Digi-Key; Supplier Part Number 3: TDA5230INCT-ND; Supplier 4: Digi-Key; Supplier Part Number 4: TDA5230INDKR-ND; Channel Requirements per Band: Multi-Channel; Green: yes; Halogen-free: yes; Modulation Type: ASK / FSK; Mounting Technology: Surface Mount; ComponentLink1Description: Manufacturer URL; ComponentLink1URL: http://www.infineon.com/; ComponentLink2Description: Datasheet; ComponentLink2URL: http://www.infineon.com/dgdl/TDA523x_DS_V4.pdf?folderId=db3a30431689f4420116a096e1db033e&fileId=db3a3043191a246301192915db677f84&location=en.Products.Sensors___Wireless_Control.Wireless_Control.Receiver.DATASHEET.TDA523x_DS_V4.pdf; ComponentLink3Description: Package Specification; ComponentLink3URL: http://www.infineon.com/cms/packages/SMD_-_Surface_Mounted_Devices/P-PG-TSSOP/P-PG-TSSOP-28-1x_-4x_-8.html?__locale=en
footprint INF-PG-TSSOP-28_N (SOP, 28-Leads, Body 9.7x4.4 mm, Pitch 0.65 mm, IPC Medium Density)
footprint INF-PG-TSSOP-28_L (SOP, 28-Leads, Body 9.7x4.4 mm, Pitch 0.65 mm, IPC High Density)
footprint INF-PG-TSSOP-28_M (SOP, 28-Leads, Body 9.7x4.4 mm, Pitch 0.65 mm, IPC Low Density)
pins: 1 IFBUF-IN (in) "Input of IF Buffer Amplifier", 2 IFBUF-OUT (out) "Output of IF Buffer Amplifier", 3 GNDA (power) "Analog Ground", 4 LIM-IN+ (in) "IF Limiter input", 5 LIM-IN- (in) "Complementary IF Limiter Input", 6 VDD5V (power) "Supply 5 V", 7 VDDD (power) "Digital Supply 3.3 V", 8 VDDD1V5 (power) "Digital Supply 1.5 V", 9 GNDD (power) "Digital Ground", 10 CLKOUT/RXD (out) "Programmable Clock Output and alternative RX Data Output", 11 RX-RUN/RXD (out) "Run Mode Output signal and alternative RX Data Output", 12 NINT/NSTR (out) "Interruput Output and alternative RX Data Strobe Output", 13 P-ON (in) "Power On", 14 XTAL1 "Crystal Oscillator", 15 XTAL2 "Crystal Oscillator", 16 NCS (in) "SPI Chip Select", 17 SCK (in) "SPI Clock", 18 SDI (in) "SPI Serial Data Input", 19 SDO (hiz) "SPI Serial Data Output", 20 T1 (in) "Connect to Digital Ground", 21 T2 (in) "Connect to RF Ground", 22 RFIN- (in) "Complementary LNA Input", 23 RFIN+ (in) "LNA Input", 24 GNDRF (power) "RF Ground", 25 NC "Do not connect", 26 RSSI (out) "RSSI Output", 27 VDDA (power) "Analog Supply 3.3 V", 28 IF-OUT (out) "Mixer IF Output"

## TDA5231
designator U?
Universal Low Power ASK / FSK Single Conversion Multi-Channel Image-Reject Receiver with Digital Baseband Processing, -40 to 105 degC, PG-TSSOP-28; Manufacturer: Infineon; PartNumber: TDA5231; Digital Baseband / Autonomous RX: yes; Frequency Band: 315 MHz; Group: SmartLEWIS RX to Receiver with Digital Baseband Processing; DatasheetVersion: Rev. 4.0; PackageReference: PG-TSSOP-28; PackageDescription: 28-Pin Plastic (Green) Thin Shrink Small Outline Package, 9.7 x 4.4 mm Body, 0.65 mm Pitch; Supplier 1: Mouser; Supplier Part Number 1: 726-TDA5231; Supplier 2: Digi-Key; Supplier Part Number 2: TDA5231INTR-ND; Supplier 3: Digi-Key; Supplier Part Number 3: TDA5231INCT-ND; Supplier 4: Digi-Key; Supplier Part Number 4: TDA5231INDKR-ND; Channel Requirements per Band: Multi-Channel; Modulation Type: ASK / FSK; Mounting Technology: Surface Mount; ComponentLink1Description: Manufacturer URL; ComponentLink1URL: http://www.infineon.com/; ComponentLink2Description: Datasheet; ComponentLink2URL: http://www.infineon.com/dgdl/TDA523x_DS_V4.pdf?folderId=db3a30431689f4420116a096e1db033e&fileId=db3a3043191a246301192915db677f84&location=en.Products.Sensors___Wireless_Control.Wireless_Control.Receiver.DATASHEET.TDA523x_DS_V4.pdf; ComponentLink3Description: Package Specification; ComponentLink3URL: http://www.infineon.com/cms/packages/SMD_-_Surface_Mounted_Devices/P-PG-TSSOP/P-PG-TSSOP-28-1x_-4x_-8.html?__locale=en
footprint INF-PG-TSSOP-28_N (SOP, 28-Leads, Body 9.7x4.4 mm, Pitch 0.65 mm, IPC Medium Density)
footprint INF-PG-TSSOP-28_L (SOP, 28-Leads, Body 9.7x4.4 mm, Pitch 0.65 mm, IPC High Density)
footprint INF-PG-TSSOP-28_M (SOP, 28-Leads, Body 9.7x4.4 mm, Pitch 0.65 mm, IPC Low Density)
pins: 1 IFBUF-IN (in) "Input of IF Buffer Amplifier.", 2 IFBUF-OUT (out) "Output of IF Buffer Amplifier.", 3 GNDA (power) "Analog Ground", 4 LIM-IN+ (in) "IF Limiter Input", 5 LIM-IN- (in) "Complementary IF Limiter Input", 6 VDD5V (power) "Supply 5 V", 7 VDDD (power) "Digital Supply 3.3 V", 8 VDDD1V5 (power) "Digital Supply 1.5 V", 9 GNDD (power) "Digital Ground", 10 CLKOUT/RXD (out) "Programmable Clock Output and alternative RX Data Output", 11 RX-RUN/RXD (out) "Run Mode Output signal and  alternative RX Data Output", 12 NINT/NSTR (out) "Interrupt Output and alternative RX Data Strobe Output", 13 P-ON (in) "Power On", 14 XTAL1 "Crystal Oscillator", 15 XTAL2 "Crystal Oscillator", 16 NCS (in) "SPI Chip Select", 17 SCK (in) "SPI Clock", 18 SDI (in) "SPI Serial Data Input", 19 SDO (hiz) "SPI Serial Data  Output", 20 T1 (in) "Connect to Digital Ground", 21 T2 (in) "Connect to RF Ground", 22 RFIN- (in) "Complementary LNA Input", 23 RFIN+ (in) "LNA Input", 24 GNDRF (power) "RF Ground", 25 NC "Do not connect", 26 RSSI (out) "RSSI Output", 27 VDDA (power) "Analog Supply 3.3 V", 28 IF-OUT (out) "Mixer IF Output"

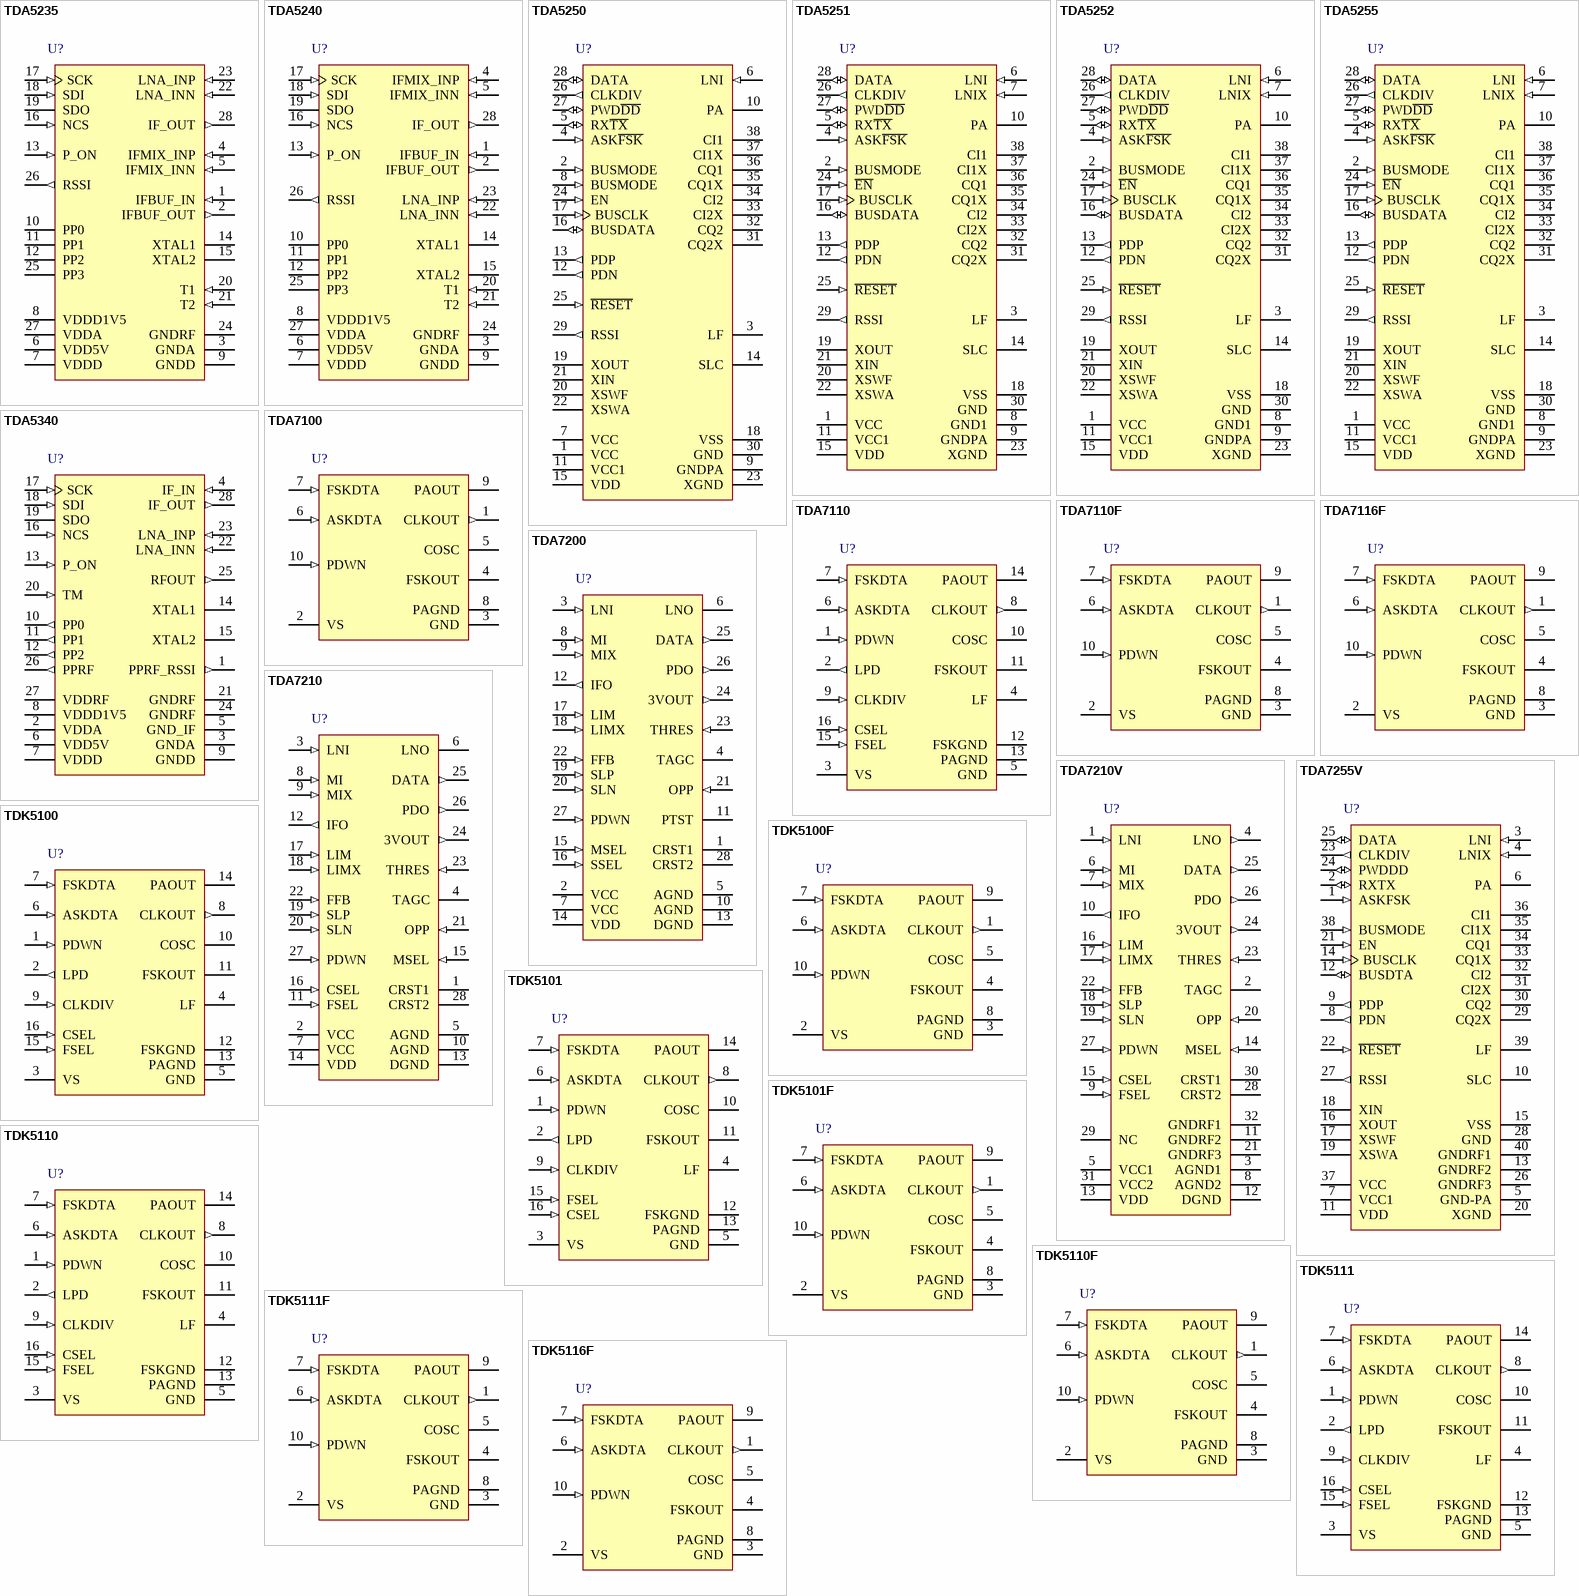
[diagram p9: symbols TDA5235 to TDK5116F]

## TDA5235
designator U?
Enhanced Sensitivity Double-Configuration Receiver with Digital Baseband Processing, -40 to 105 degC, PG-TSSOP-28, Green; Manufacturer: Infineon; PartNumber: TDA5235; Channel Requirements per Band: Single-Channel; Digital Baseband / Autonomous RX: yes; Frequency Band: 315 MHz, 434 MHz, 868 MHz, 915 MHz; Group: SmartLEWIS RX+ to High Sensitivity Receiver with Digital Baseband Processing; Modulation Type: ASK / FSK; DatasheetVersion: Rev. 1.0; PackageReference: PG-TSSOP-28; PackageDescription: 28-Pin Plastic (Green) Thin Shrink Small Outline Package, 9.7 x 4.4 mm Body, 0.65 mm Pitch; Supplier 1: Mouser; Supplier Part Number 1: 726-TDA5235; Supplier 2: Digi-Key; Supplier Part Number 2: TDA5235-ND; Green: yes; Halogen-free: yes; Mounting Technology: Surface Mount; ComponentLink1Description: Manufacturer URL; ComponentLink1URL: http://www.infineon.com/; ComponentLink2Description: Datasheet; ComponentLink2URL: http://www.infineon.com/dgdl/TDA5235_DS_V1.0.pdf?folderId=db3a3043191a246301192dd3ee2c2ae4&fileId=db3a30432968c5520129698ce7fa0076; ComponentLink3Description: Package Specification; ComponentLink3URL: http://www.infineon.com/cms/packages/SMD_-_Surface_Mounted_Devices/P-PG-TSSOP/P-PG-TSSOP-28-1x_-4x_-8.html?__locale=en
footprint INF-PG-TSSOP-28_N (SOP, 28-Leads, Body 9.7x4.4 mm, Pitch 0.65 mm, IPC Medium Density)
footprint INF-PG-TSSOP-28_L (SOP, 28-Leads, Body 9.7x4.4 mm, Pitch 0.65 mm, IPC High Density)
footprint INF-PG-TSSOP-28_M (SOP, 28-Leads, Body 9.7x4.4 mm, Pitch 0.65 mm, IPC Low Density)
pins: 1 IFBUF_IN (in) "Analog input IF Buffer input Note: Input is biased at VDDA/2", 2 IFBUF_OUT (out) "Analog output IF Buffer output", 3 GNDA (power) "Analog ground", 4 IFMIX_INP (in) "Analog input + IF mixer input Note: Input is biased at VDDA/2", 5 IFMIX_INN (in) "Analog input. - IF mixer input", 6 VDD5V (power) "Analog input 5 Volt supply input", 7 VDDD (power) "Analog input digital supply input", 8 VDDD1V5 (power) "Analog output 1.5 Volt voltage regulator", 9 GNDD (power) "Digital ground", 10 PP0 (hiz) "Digital output CLK_OUT, RX_RUN, NINT, LOW, HIGH, DATA and DATA_MATCHFIL are programmable via a SFR (Special Function Register), default = CLK_OUT", 11 PP1 (hiz) "Digital output CLK_OUT, RX_RUN, NINT, LOW, HIGH, DATA and DATA_MATCHFIL are programmable via a SFR, default = DATA", 12 PP2 (hiz) "Digital output CLK_OUT, RX_RUN, NINT, LOW, HIGH, DATA and DATA_MATCHFIL are programmable via a SFR, default = NINT", 13 P_ON (in) "Digital input power-on reset", 14 XTAL1 "Analog input crystal oscillator input", 15 XTAL2 "Analog output crystal oscillator output", 16 NCS (in) "Digital input SPI enable", 17 SCK (in) "Digital input SPI clock", 18 SDI (in) "Digital input SPI data in", 19 SDO (hiz) "Digital output SPI data out", 20 T1 (in) "Digital input, connect to Digital Ground", 21 T2 (in) "Digital input, connect to Digital Ground", 22 LNA_INN (in) "Analog input - RF input", 23 LNA_INP (in) "Analog input + RF input", 24 GNDRF (power) "RF analog ground", 25 PP3 (hiz) "Digital output RX_RUN, NINT, LOW, HIGH, DATA and DATA_MATCHFIL are programmable via a SFR, default = RX_RUN", 26 RSSI (out) "Analog output analog RSSI output/ analog test pin ANA_TST", 27 VDDA (power) "Analog input Analog supply", 28 IF_OUT (out) "Analog output IF output"

## TDA5240
designator U?
Enhanced Sensitivity Multi-Channel Quad-Configuration Receiver with Digital Baseband Processing, -40 to 105 degC, PG-TSSOP-28, Green; Manufacturer: Infineon; PartNumber: TDA5240; Digital Baseband / Autonomous RX: yes; Frequency Band: 315 MHz, 434 MHz, 868 MHz, 915 MHz; Group: SmartLEWIS RX+ to High Sensitivity Receiver with Digital Baseband Processing; Modulation Type: ASK / FSK; DatasheetVersion: Rev. 4.0; PackageReference: PG-TSSOP-28; PackageDescription: 28-Pin Plastic (Green) Thin Shrink Small Outline Package, 9.7 x 4.4 mm Body, 0.65 mm Pitch; Supplier 1: Mouser; Supplier Part Number 1: 726-TDA5240; Supplier 2: Digi-Key; Supplier Part Number 2: TDA5240-ND; Channel Requirements per Band: Multi-Channel; Green: yes; Halogen-free: yes; Mounting Technology: Surface Mount; ComponentLink1Description: Manufacturer URL; ComponentLink1URL: http://www.infineon.com/; ComponentLink2Description: Datasheet; ComponentLink2URL: http://www.infineon.com/dgdl/TDA5240_DS_V4.0.pdf?folderId=db3a3043191a246301192dd3ee2c2ae4&fileId=db3a30432968c55201296990e0d00081; ComponentLink3Description: Package Specification; ComponentLink3URL: http://www.infineon.com/cms/packages/SMD_-_Surface_Mounted_Devices/P-PG-TSSOP/P-PG-TSSOP-28-1x_-4x_-8.html?__locale=en
footprint INF-PG-TSSOP-28_N (SOP, 28-Leads, Body 9.7x4.4 mm, Pitch 0.65 mm, IPC Medium Density)
footprint INF-PG-TSSOP-28_L (SOP, 28-Leads, Body 9.7x4.4 mm, Pitch 0.65 mm, IPC High Density)
footprint INF-PG-TSSOP-28_M (SOP, 28-Leads, Body 9.7x4.4 mm, Pitch 0.65 mm, IPC Low Density)
pins: 1 IFBUF_IN (in) "Analog input IF Buffer input Note:Input is biased at VDDA/2", 2 IFBUF_OUT (out) "Analog output IF Buffer output", 3 GNDA (power) "Analog ground", 4 IFMIX_INP (in) "Analog input + IF mixer input Note:Input is biased at VDDA/2", 5 IFMIX_INN (in) "Analog input - IF mixer input", 6 VDD5V (power) "Analog input 5 Volt supply input", 7 VDDD (power) "Analog input digital supply input", 8 VDDD1V5 (power) "Analog output 1.5 Volt voltage regulator", 9 GNDD (power) "Digital ground", 10 PP0 (hiz) "Digital output CLK_OUT,RX_RUN,NINT,LOW,HIGH,DATA,DATA_MATCHFIL,CH_DATA,CH_STR,RXD and RXSTR are programmable via a SFR (Special Function Register),default=CLK_OUT", 11 PP1 (hiz) "Digital output CLK_OUT,RX_RUN,NINT,LOW,HIGH,DATA,DATA_MATCHFIL,CH_DATA,CH_STR,RXD and RXSTR are programmable via a SFR,default=DATA", 12 PP2 (hiz) "Digital output CLK_OUT,RX_RUN,NINT,LOW,HIGH,DATA,DATA_MATCHFIL,CH_DATA,CH_STR,RXD and RXSTR are programmable via a SFR,default=NINT", 13 P_ON (in) "Digital input power-on reset", 14 XTAL1 "Analog input crystal oscillator input", 15 XTAL2 "Analog input crystal oscillator output", 16 NCS (in) "Digital input SPI enable", 17 SCK (in) "Digital input SPI clock", 18 SDI (in) "Digital input SPI data in", 19 SDO (hiz) "Digital output SPI data out", 20 T1 (in) "Digital input,connect to Digital Ground", 21 T2 (in) "Digital input,connect to Digital Ground", 22 LNA_INN (in) "Analog input - RF input", 23 LNA_INP (in) "Analog input + RF input", 24 GNDRF (power) "RF analog ground", 25 PP3 (hiz) "Digital output RX_RUN,NINT,LOW,HIGH,DATA,DATA_MATCHFIL,CH_DATA,CH_STR,RXD and RXSTR are programmable via a SFR,default=RX_RUN", 26 RSSI (out) "Analog output analog RSSI output/analog test pin ANA_TST", 27 VDDA (power) "Analog input Analog supply", 28 IF_OUT (out) "Analog output IF output"